# Altium integrated library ATK-I.MX6ULL邮票孔核心板AD集成库.IntLib: 2 symbols
Pins are listed as number, name and electrical type; pins without a type are passive.

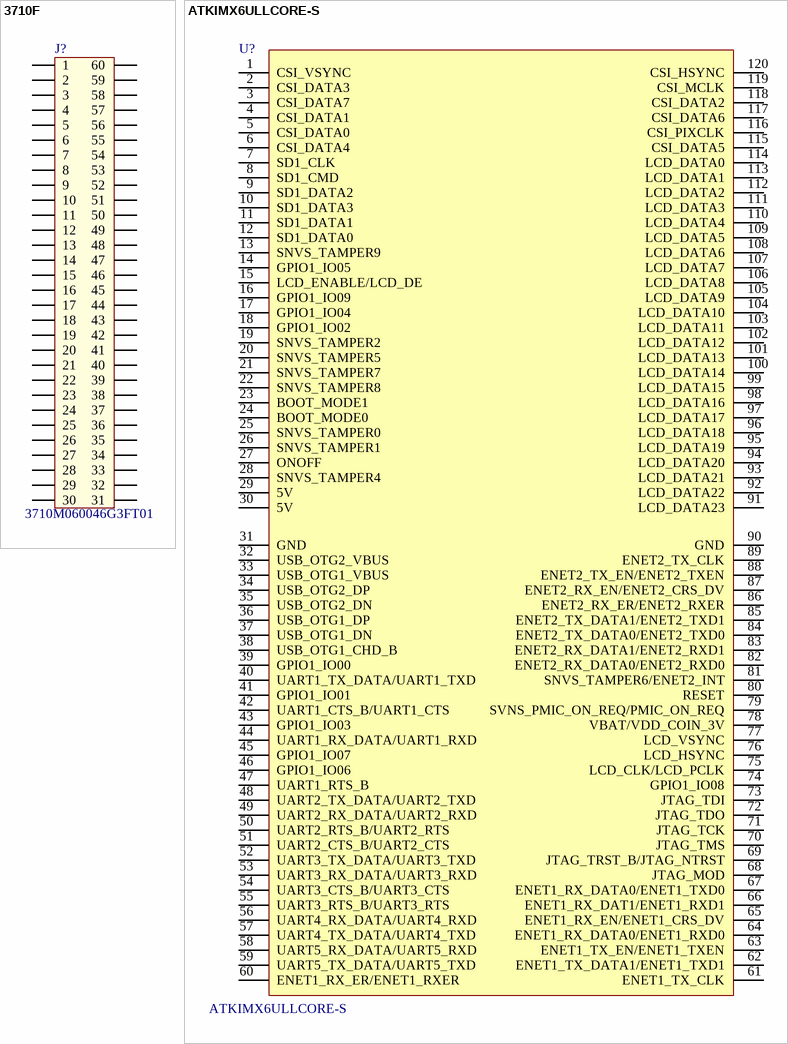
[diagram p0: symbols 3710F to ATKIMX6ULLCORE-S]

## 3710F
designator J?, comment 3710M060046G3FT01
3710F060046G3FT01
footprint 3710F060046G3FT01 (PIN:0.8mm;SOP;FEMALE)
pins: 1, 2, 3, 4, 5, 6, 7, 8, 9, 10, 11, 12, 13, 14, 15, 16, 17, 18, 19, 20, 21, 22, 23, 24, 25, 26, 27, 28, 29, 30, 31, 32, 33, 34, 35, 36, 37, 38, 39, 40, 41, 42, 43, 44, 45, 46, 47, 48, 49, 50, 51, 52, 53, 54, 55, 56, 57, 58, 59, 60

## ATKIMX6ULLCORE-S
designator U?
正点原子I.MX6ULL邮票孔核心板
footprint ATKIMX6ULLCORE-S (正点原子I.MX6ULL邮票孔核心板)
pins: 1 CSI_VSYNC, 2 CSI_DATA3, 3 CSI_DATA7, 4 CSI_DATA1, 5 CSI_DATA0, 6 CSI_DATA4, 7 SD1_CLK, 8 SD1_CMD, 9 SD1_DATA2, 10 SD1_DATA3, 11 SD1_DATA1, 12 SD1_DATA0, 13 SNVS_TAMPER9, 14 GPIO1_IO05, 15 LCD_ENABLE/LCD_DE, 16 GPIO1_IO09, 17 GPIO1_IO04, 18 GPIO1_IO02, 19 SNVS_TAMPER2, 20 SNVS_TAMPER5, 21 SNVS_TAMPER7, 22 SNVS_TAMPER8, 23 BOOT_MODE1, 24 BOOT_MODE0, 25 SNVS_TAMPER0, 26 SNVS_TAMPER1, 27 ONOFF, 28 SNVS_TAMPER4, 29 5V, 30 5V, 31 GND, 32 USB_OTG2_VBUS, 33 USB_OTG1_VBUS, 34 USB_OTG2_DP, 35 USB_OTG2_DN, 36 USB_OTG1_DP, 37 USB_OTG1_DN, 38 USB_OTG1_CHD_B, 39 GPIO1_IO00, 40 UART1_TX_DATA/UART1_TXD, 41 GPIO1_IO01, 42 UART1_CTS_B/UART1_CTS, 43 GPIO1_IO03, 44 UART1_RX_DATA/UART1_RXD, 45 GPIO1_IO07, 46 GPIO1_IO06, 47 UART1_RTS_B, 48 UART2_TX_DATA/UART2_TXD, 49 UART2_RX_DATA/UART2_RXD, 50 UART2_RTS_B/UART2_RTS, 51 UART2_CTS_B/UART2_CTS, 52 UART3_TX_DATA/UART3_TXD, 53 UART3_RX_DATA/UART3_RXD, 54 UART3_CTS_B/UART3_CTS, 55 UART3_RTS_B/UART3_RTS, 56 UART4_RX_DATA/UART4_RXD, 57 UART4_TX_DATA/UART4_TXD, 58 UART5_RX_DATA/UART5_RXD, 59 UART5_TX_DATA/UART5_TXD, 60 ENET1_RX_ER/ENET1_RXER, 61 ENET1_TX_CLK, 62 ENET1_TX_DATA1/ENET1_TXD1, 63 ENET1_TX_EN/ENET1_TXEN, 64 ENET1_RX_DATA0/ENET1_RXD0, 65 ENET1_RX_EN/ENET1_CRS_DV, 66 ENET1_RX_DAT1/ENET1_RXD1, 67 ENET1_RX_DATA0/ENET1_TXD0, 68 JTAG_MOD, 69 JTAG_TRST_B/JTAG_NTRST, 70 JTAG_TMS, 71 JTAG_TCK, 72 JTAG_TDO, 73 JTAG_TDI, 74 GPIO1_IO08, 75 LCD_CLK/LCD_PCLK, 76 LCD_HSYNC, 77 LCD_VSYNC, 78 VBAT/VDD_COIN_3V, 79 SVNS_PMIC_ON_REQ/PMIC_ON_REQ, 80 RESET, 81 SNVS_TAMPER6/ENET2_INT, 82 ENET2_RX_DATA0/ENET2_RXD0, 83 ENET2_RX_DATA1/ENET2_RXD1, 84 ENET2_TX_DATA0/ENET2_TXD0, 85 ENET2_TX_DATA1/ENET2_TXD1, 86 ENET2_RX_ER/ENET2_RXER, 87 ENET2_RX_EN/ENET2_CRS_DV, 88 ENET2_TX_EN/ENET2_TXEN, 89 ENET2_TX_CLK, 90 GND, 91 LCD_DATA23, 92 LCD_DATA22, 93 LCD_DATA21, 94 LCD_DATA20, 95 LCD_DATA19, 96 LCD_DATA18, 97 LCD_DATA17, 98 LCD_DATA16, 99 LCD_DATA15, 100 LCD_DATA14, 101 LCD_DATA13, 102 LCD_DATA12, 103 LCD_DATA11, 104 LCD_DATA10, 105 LCD_DATA9, 106 LCD_DATA8, 107 LCD_DATA7, 108 LCD_DATA6, 109 LCD_DATA5, 110 LCD_DATA4, 111 LCD_DATA3, 112 LCD_DATA2, 113 LCD_DATA1, 114 LCD_DATA0, 115 CSI_DATA5, 116 CSI_PIXCLK, 117 CSI_DATA6, 118 CSI_DATA2, 119 CSI_MCLK, 120 CSI_HSYNC